# Altium footprint library i6A 24V.PcbLib: 5 footprints
Each footprint in its own frame and in the unit in brackets; x right, y up, seen from the top. Pads: shape width x height; smd on the part's side, far side on the other; paste and mask are expansions set on the pad; w line width, h text height; cw(c..) or ccw(c..) is an arc to the next point about the centre after c.
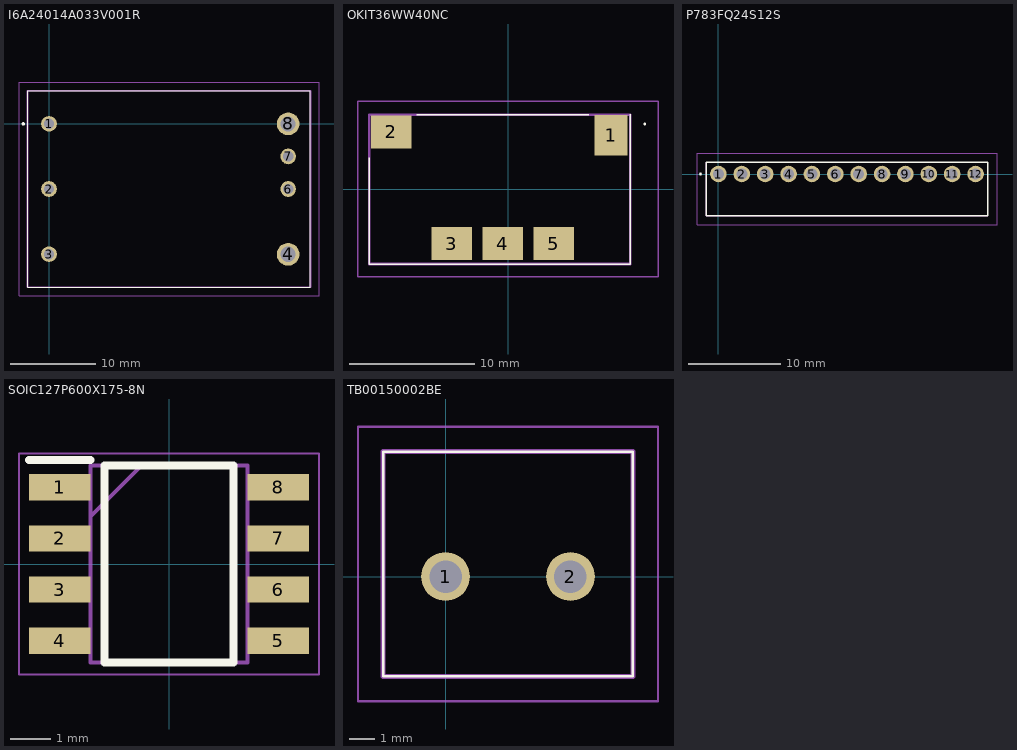
[diagram p0: the footprints below, top view; thin cyan lines are the x and y axes]

## I6A24014A033V001R [mm]
pads (7):
  round 1.83 hole 1.22: 1(0,0) 2(0,-7.6) 3(0,-15.2) 6(27.9,-7.6) 7(27.9,-3.8)
  round 2.655 hole 1.77: 4(27.9,-15.22) 8(27.9,0)
Top Overlay:
  lines w0.1: -2.5,-19.05 -2.5,3.85 30.5,3.85 30.5,-19.05 -2.5,-19.05
  lines w0.2: -3,-0.1 cw(c-3,0) -3,0.1 cw(c-3,0) -3,-0.1
Mechanical 13:
  lines w0.2: -2.5,-19.05 -2.5,3.85 30.5,3.85 30.5,-19.05 -2.5,-19.05
Mechanical 15:
  lines w0.1: -3.5,-20.05 -3.5,4.85 31.5,4.85 31.5,-20.05 -3.5,-20.05
3D body "I6A24014A033V-001-R.stp": height 12.2, standoff -5, extent -2.5,-19.05 30.5,3.85

## OKIT36WW40NC [mm]
pads (5):
  rect 2.6x3.23 smd: 1(8.21,4.295)
  rect 3.23x2.6 smd: 2(-9.31,4.545) 3(-4.48,-4.345) 4(-0.43,-4.345) 5(3.64,-4.345)
Top Overlay:
  lines w0.1: -11.07,2.475 -11.07,-5.975 9.73,-5.975 9.73,5.975 ; -7.25,5.925 6.45,5.925 ; 10.85,5.175 cw(c10.9,5.175) 10.95,5.175 cw(c10.9,5.175) 10.85,5.175
Mechanical 13:
  lines w0.2: -11.07,-5.975 -11.07,5.925 9.73,5.925 9.73,-5.975 -11.07,-5.975
Mechanical 15:
  lines w0.1: -11.95,-6.975 -11.95,6.975 11.95,6.975 11.95,-6.975 -11.95,-6.975
3D body "OKI-T_36W-W40N-C.stp": height 9.1, standoff 0, extent -11.07,-5.975 9.73,5.925

## P783FQ24S12S [mm]
pads (12):
  round 1.8 hole 1.2: 1(0,0) 2(2.54,0) 3(5.08,0) 4(7.62,0) 5(10.16,0) 6(12.7,0) 7(15.24,0) 8(17.78,0) 9(20.32,0) 10(22.86,0) 11(25.4,0) 12(27.94,0)
Top Overlay:
  lines w0.2: -2,0 cw(c-1.95,0) -1.9,0 ; -2,0 ccw(c-1.95,0) -1.9,0 ; -2,0 cw(c-1.95,0) -1.9,0 ; -1.33,-4.53 -1.33,1.27 29.27,1.27 29.27,-4.53 -1.33,-4.53
Mechanical 13:
  lines w0.1: -1.33,-4.53 -1.33,1.27 29.27,1.27 29.27,-4.53 -1.33,-4.53
Mechanical 15:
  lines w0.1: -2.33,-5.53 -2.33,2.27 30.27,2.27 30.27,-5.53 -2.33,-5.53
3D body "P783F-Q24-S12-S.stp": height 13.1, standoff -5, extent -1.33,-4.53 29.27,1.27

## SOIC127P600X175-8N [mm]
pads (8):
  rect 1.525x0.65 smd: 1(-2.712,1.905) 2(-2.712,0.635) 3(-2.712,-0.635) 4(-2.712,-1.905) 5(2.712,-1.905) 6(2.712,-0.635) 7(2.712,0.635) 8(2.712,1.905)
Top Overlay:
  lines w0.2: -3.475,2.58 -1.95,2.58 ; -1.6,-2.45 1.6,-2.45 1.6,2.45 -1.6,2.45 -1.6,-2.45
Mechanical 13:
  lines w0.1: -1.95,1.18 -0.68,2.45 ; -1.95,-2.45 1.95,-2.45 1.95,2.45 -1.95,2.45 -1.95,-2.45
Mechanical 15:
  lines w0.05: -3.725,-2.75 3.725,-2.75 3.725,2.75 -3.725,2.75 -3.725,-2.75
3D body "NE555DR.stp": height 1.75, standoff 0, extent -3,-2.45 3,2.45

## TB00150002BE [mm]
pads (2):
  round 1.95 hole 1.3: 1(0,0) 2(5,0)
Top Overlay:
  lines w0.1: -2.5,-4 -2.5,5 7.5,5 7.5,-4 -2.5,-4
Mechanical 13:
  lines w0.2: -2.5,-4 -2.5,5 7.5,5 7.5,-4 -2.5,-4
Mechanical 15:
  lines w0.1: -3.5,-5 -3.5,6 8.5,6 8.5,-5 -3.5,-5
3D body "TB001-500-02BE.stp": height 13, standoff -5, extent -2.5,-4 7.5,5